# EAGLE library part MOJO_V2_HEADER1 (library EmbeddedMicro-Mojo)
Only the header in mojo v2 header 1
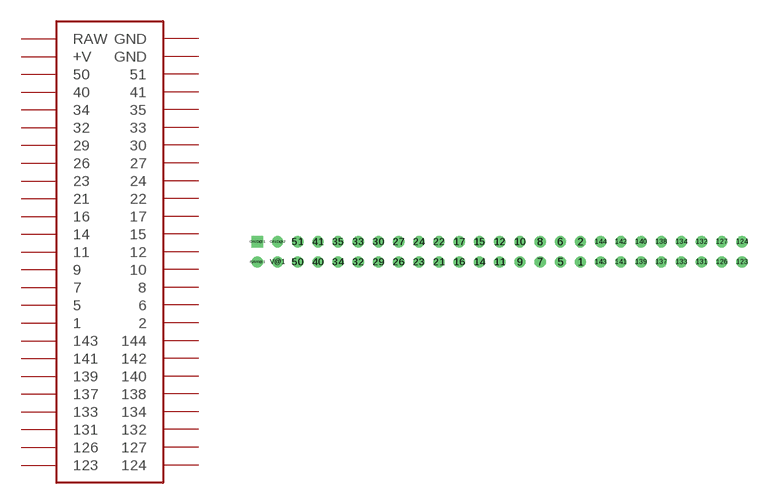
[diagram p1: symbol with the pads of MOJO_V2_HEADER1; footprint MOJO_V2_HEADER1]

Designator prefix -

## MOJO_V2_HEADER1  [MOJO_V2_HEADER1]
1  1
2  2
5  5
6  6
7  7
8  8
9  9
10  10
11  11
12  12
14  14
15  15
16  16
17  17
21  21
22  22
23  23
24  24
26  26
27  27
29  29
30  30
32  32
33  33
34  34
35  35
40  40
41  41
50  50
51  51
123  123
124  124
126  126
127  127
131  131
132  132
133  133
134  134
137  137
138  138
139  139
140  140
141  141
142  142
143  143
144  144
GND@1  GND  sup
GND@2  GND  sup
RAW@1  RAW  sup
V@1  +V  sup

## Footprint MOJO_V2_HEADER1 (pad centres in mm)
drill 0.9: 1 10.16,-1.27; 2 10.16,1.27; 5 7.62,-1.27; 6 7.62,1.27; 7 5.08,-1.27; 8 5.08,1.27; 9 2.54,-1.27; 10 2.54,1.27; 11 0,-1.27; 12 0,1.27; 14 -2.54,-1.27; 15 -2.54,1.27; 16 -5.08,-1.27; 17 -5.08,1.27; 21 -7.62,-1.27; 22 -7.62,1.27; 23 -10.16,-1.27; 24 -10.16,1.27; 26 -12.7,-1.27; 27 -12.7,1.27; 29 -15.24,-1.27; 30 -15.24,1.27; 32 -17.78,-1.27; 33 -17.78,1.27; 34 -20.32,-1.27; 35 -20.32,1.27; 40 -22.86,-1.27; 41 -22.86,1.27; 50 -25.4,-1.27; 51 -25.4,1.27; 123 30.48,-1.27; 124 30.48,1.27; 126 27.94,-1.27; 127 27.94,1.27; 131 25.4,-1.27; 132 25.4,1.27; 133 22.86,-1.27; 134 22.86,1.27; 137 20.32,-1.27; 138 20.32,1.27; 139 17.78,-1.27; 140 17.78,1.27; 141 15.24,-1.27; 142 15.24,1.27; 143 12.7,-1.27; 144 12.7,1.27; GND@2 -27.94,1.27; RAW@1 -30.48,-1.27; V@1 -27.94,-1.27
drill 0.9 square: GND@1 -30.48,1.27